# EAGLE library part 8PIN-HEADER (library 000_CustomPartsMaster)
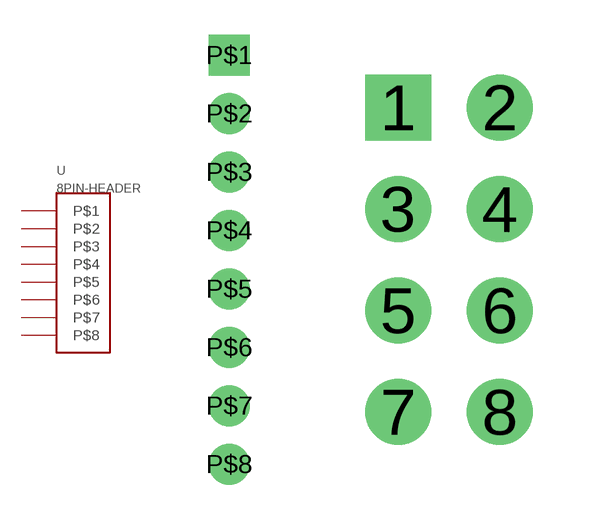
[diagram p26: symbol with the pads of 8PIN_HEADER; footprints 8PIN_HEADER, 8PIN_2X4]

Designator prefix -

## 8PIN-HEADER  [8PIN_HEADER]
P$1  P$1
P$2  P$2
P$3  P$3
P$4  P$4
P$5  P$5
P$6  P$6
P$7  P$7
P$8  P$8

## 8PIN-HEADER2X4  [8PIN_2X4]
1  P$1
2  P$2
3  P$3
4  P$4
5  P$5
6  P$6
7  P$7
8  P$8

## Footprint 8PIN_HEADER (pad centres in mm)
drill 1.2 square: P$1 0,8.89
drill 1.2: P$2 0,6.35; P$3 0,3.81; P$4 0,1.27; P$5 0,-1.27; P$6 0,-3.81; P$7 0,-6.35; P$8 0,-8.89

## Footprint 8PIN_2X4 (pad centres in mm)
drill 1.1 square: 1 0,0
drill 1.1: 2 2.54,0; 3 0,-2.54; 4 2.54,-2.54; 5 0,-5.08; 6 2.54,-5.08; 7 0,-7.62; 8 2.54,-7.62